# Altium schematic symbol library SCH - Regulators - TPS562211.SchLib: 1 symbol
Pins are listed as number, name and electrical type; pins without a type are passive.

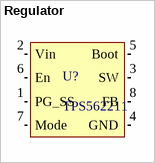
[diagram p0: symbol Regulator]

## Regulator
designator U?, comment TPS562211
pins: 1 PG_SS, 2 Vin, 3 SW, 4 GND, 5 Boot, 6 En, 7 Mode, 8 FB